# Altium footprint library INDP5858X480N.PcbLib: 1 footprints
Each footprint in its own frame and in the unit in brackets; x right, y up, seen from the top. Pads: shape width x height; smd on the part's side, far side on the other; paste and mask are expansions set on the pad; w line width, h text height; cw(c..) or ccw(c..) is an arc to the next point about the centre after c.
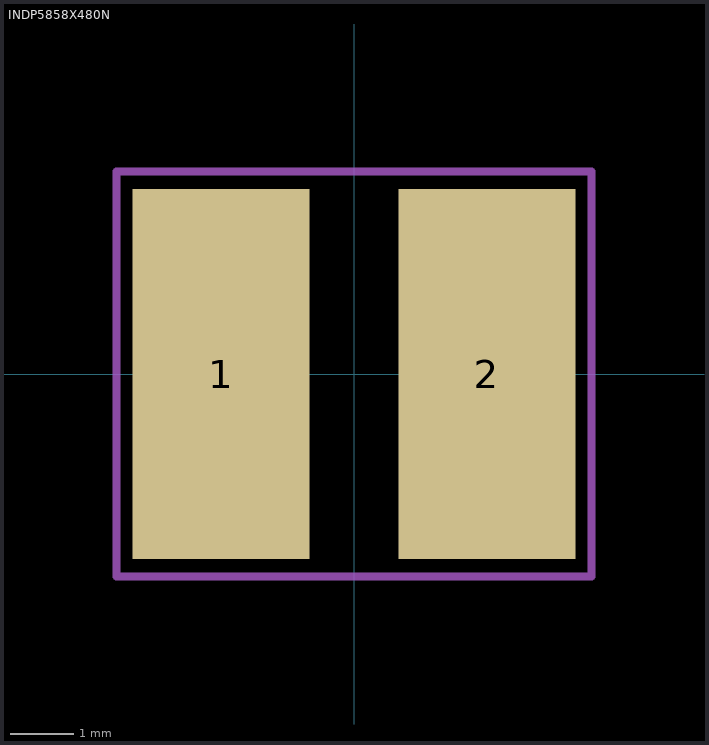
[diagram p0: the footprint, top view; thin cyan lines are the x and y axes]

## INDP5858X480N [mm]
pads (2):
  rect 2.8x5.85 smd: 1(-2.1,0) 2(2.1,0)
Mechanical 15:
  lines w0.127: -3.75,-3.2 -3.75,3.2 3.75,3.2 3.75,-3.2 -3.75,-3.2
3D body "sdr0604-221kl.stp": height 4.8, standoff 0, extent -2.9,-2.9 2.9,2.9